# Altium footprint library Biotaitan.PcbLib: 15 footprints
Each footprint in its own frame and in the unit in brackets; x right, y up, seen from the top. Pads: shape width x height; smd on the part's side, far side on the other; paste and mask are expansions set on the pad; w line width, h text height; cw(c..) or ccw(c..) is an arc to the next point about the centre after c.
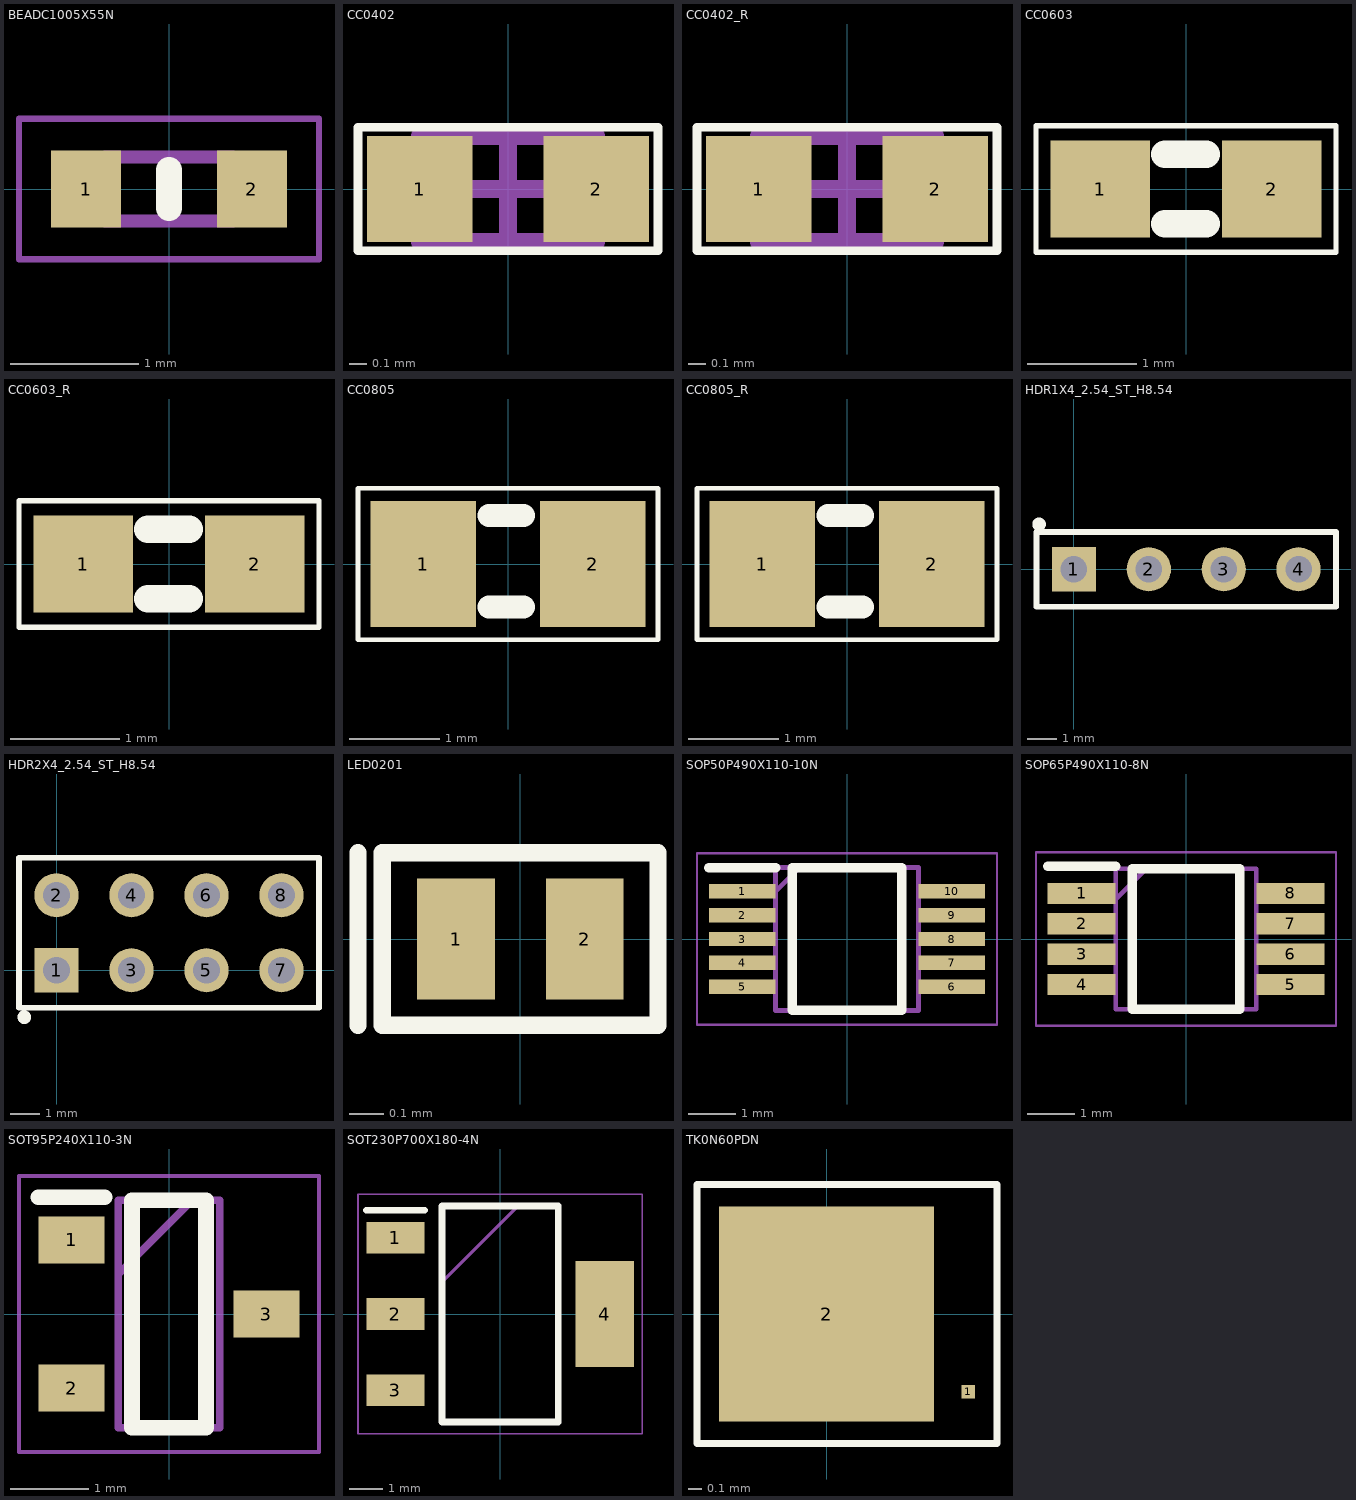
[diagram p0: the footprints below, top view; thin cyan lines are the x and y axes]

## BEADC1005X55N [mm]
pads (2):
  rect 0.55x0.6 smd: 1(-0.65,0) 2(0.65,0)
Top Overlay:
  lines w0.2: 0,-0.15 0,0.15
Mechanical 13:
  lines w0.1: -0.5,-0.25 -0.5,0.25 0.5,0.25 0.5,-0.25 -0.5,-0.25
Mechanical 15:
  lines w0.05: -1.175,-0.55 -1.175,0.55 1.175,0.55 1.175,-0.55 -1.175,-0.55
3D body "MMZ1005Y152CTD25.stp": height 0.55, standoff 0, extent -0.5,-0.25 0.5,0.25

## CC0402 [mm]
height 0.5
pads (2):
  rect 0.6x0.6 smd mask+0.07: 1(-0.5,0) 2(0.5,0)
Top Overlay:
  lines w0.05: -0.85,-0.35 -0.85,0.35 0.85,0.35 0.85,-0.35 -0.85,-0.35
Mechanical 13:
  lines w0.1: -0.5,-0.3 -0.5,0.3 0.5,0.3 0.5,-0.3 -0.5,-0.3
Mechanical 15:
  lines w0.1: -0.25,0 0.25,0 ; 0,-0.25 0,0.25
3D body "CC0402.step": height 0.5, standoff 0, extent -0.5,-0.25 0.5,0.25

## CC0402_R [mm]
height 0.5
pads (2):
  rect 0.6x0.6 smd mask+0.07: 1(-0.5,0) 2(0.5,0)
Top Overlay:
  lines w0.05: -0.85,-0.35 0.85,-0.35 0.85,0.35 -0.85,0.35 -0.85,-0.35
Mechanical 13:
  lines w0.1: -0.5,-0.3 0.5,-0.3 0.5,0.3 -0.5,0.3 -0.5,-0.3
Mechanical 15:
  lines w0.1: -0.25,0 0.25,0 ; 0,-0.25 0,0.25
3D body "CC402_R.step": height 0.35, standoff 0, extent -0.5,-0.25 0.5,0.25

## CC0603 [mil]
pads (2):
  rect 36x35 smd: 1(-31,0) 2(31,0)
Top Overlay:
  lines w1.97: -54.33,-22.83 54.33,-22.83 ; -54.33,-22.69 -54.33,22.72 ; -54.33,22.83 54.33,22.83 ; 54.33,-22.69 54.33,22.72
  lines w10: -7.62,-12.6 7.38,-12.6 ; -7.62,12.6 7.38,12.6
3D body "CC0603.step": height 31.5, standoff 0, extent -31.5,-15.75 31.49,15.74

## CC0603_R [mil]
pads (2):
  rect 36x35 smd: 1(-31,0) 2(31,0)
Top Overlay:
  lines w1.97: -54.33,-22.83 54.33,-22.83 ; -54.33,-22.69 -54.33,22.72 ; -54.33,22.83 54.33,22.83 ; 54.33,-22.69 54.33,22.72
  lines w10: -7.62,-12.6 7.38,-12.6 ; -7.62,12.6 7.38,12.6
3D body "CC0603_R.step": height 17.72, standoff 0, extent -31.5,-15.74 31.49,15.75

## CC0805 [mil]
pads (2):
  rect 46x55 smd: 1(-37,0) 2(37,0)
Top Overlay:
  lines w1.97: -65.35,-33.07 -65.35,33.07 65.35,33.07 65.35,-33.07 -65.35,-33.07
  lines w10: -8.28,-18.81 6.72,-18.81 ; -8.28,21.19 6.72,21.19
3D body "CC0805.step": height 39.37, standoff 0, extent -39.37,-24.6 39.37,24.61

## CC0805_R [mil]
pads (2):
  rect 46x55 smd: 1(-37,0) 2(37,0)
Top Overlay:
  lines w1.97: -65.35,-33.07 -65.35,33.07 65.35,33.07 65.35,-33.07 -65.35,-33.07
  lines w10: -8.28,-18.81 6.72,-18.81 ; -8.28,21.19 6.72,21.19
3D body "CC0805_R.step": height 29.92, standoff 0, extent -45.27,-26.57 45.28,26.58

## HDR1X4_2.54_ST_H8.54 [mm] "Connector; Header; 4 Position"
pads (4):
  rect 1.5x1.5 hole 0.9: 1(0,0)
  round 1.5 hole 0.9: 2(2.54,0) 3(5.08,0) 4(7.62,0)
Top Overlay:
  circle w0.254: c-1.185,1.525 r0.103
  lines w0.2: -1.27,-1.27 -1.27,1.27 8.89,1.27 8.89,-1.27 -1.27,-1.27
3D body "61300411121_Downlaod_STP_61300411121_rev1.stp": height 8.57, standoff -2.97, extent -1.21,-1.27 8.95,1.27

## HDR2X4_2.54_ST_H8.54 [mm] "Connector; Header; 8 Position"
pads (8):
  rect 1.5x1.5 hole 0.9: 1(0,0)
  round 1.5 hole 0.9: 2(0,2.54) 3(2.54,0) 4(2.54,2.54) 5(5.08,0) 6(5.08,2.54) 7(7.62,0) 8(7.62,2.54)
Top Overlay:
  circle w0.254: c-1.09,-1.59 r0.103
  lines w0.2: -1.27,-1.27 8.89,-1.27 8.89,1.27 8.89,3.81 -1.27,3.81 -1.27,1.27 -1.27,-1.27
3D body "61300411121_Downlaod_STP_61300411121_rev1.stp": height 8.57, standoff -2.97, extent -1.21,-1.27 8.95,1.27
3D body "61300411121_Downlaod_STP_61300411121_rev1.stp": height 8.57, standoff -2.97, extent -1.21,1.27 8.95,3.81

## LED0201 [mm]
pads (2):
  rect 0.225x0.35 smd: 1(-0.186,0) 2(0.188,0)
Top Overlay:
  lines w0.05: -0.47,-0.25 -0.47,0.25 ; -0.4,-0.25 -0.4,0.25 0.4,0.25 0.4,-0.25 -0.4,-0.25
3D body "IN-S21AT2G.stp": height 0.36, standoff 0, extent -0.325,-0.19 0.325,0.19

## SOP50P490X110-10N [mm]
pads (10):
  rect 1.4x0.3 smd: 1(-2.2,1) 2(-2.2,0.5) 3(-2.2,0) 4(-2.2,-0.5) 5(-2.2,-1) 6(2.2,-1) 7(2.2,-0.5) 8(2.2,0) 9(2.2,0.5) 10(2.2,1)
Top Overlay:
  lines w0.2: -2.9,1.5 -1.5,1.5 ; -1.15,-1.5 1.15,-1.5 1.15,1.5 -1.15,1.5 -1.15,-1.5
Mechanical 13:
  lines w0.1: -1.5,1 -1,1.5 ; -1.5,-1.5 1.5,-1.5 1.5,1.5 -1.5,1.5 -1.5,-1.5
Mechanical 15:
  lines w0.05: -3.15,-1.8 3.15,-1.8 3.15,1.8 -3.15,1.8 -3.15,-1.8
3D body "ADS1115IDGSR.stp": height 1.1, standoff 0, extent -2.463,-1.5 2.463,1.5

## SOP65P490X110-8N [mm]
pads (8):
  rect 1.45x0.45 smd: 1(-2.225,0.975) 2(-2.225,0.325) 3(-2.225,-0.325) 4(-2.225,-0.975) 5(2.225,-0.975) 6(2.225,-0.325) 7(2.225,0.325) 8(2.225,0.975)
Top Overlay:
  lines w0.2: -2.95,1.55 -1.5,1.55 ; -1.15,-1.5 -1.15,1.5 1.15,1.5 1.15,-1.5 -1.15,-1.5
Mechanical 13:
  lines w0.1: -1.5,0.85 -0.85,1.5 ; -1.5,-1.5 -1.5,1.5 1.5,1.5 1.5,-1.5 -1.5,-1.5
Mechanical 15:
  lines w0.05: -3.2,-1.85 -3.2,1.85 3.2,1.85 3.2,-1.85 -3.2,-1.85
3D body "AD8642ARMZ.stp": height 1.1, standoff 0, extent -2.45,-1.5 2.45,1.5

## SOT95P240X110-3N [mm]
pads (3):
  rect 0.85x0.6 smd: 1(-1.25,0.95) 2(-1.25,-0.95) 3(1.25,0)
Top Overlay:
  lines w0.2: -1.675,1.5 -0.825,1.5 ; -0.475,-1.46 -0.475,1.46 0.475,1.46 0.475,-1.46 -0.475,-1.46
Mechanical 13:
  lines w0.1: -0.65,0.51 0.3,1.46 ; -0.65,-1.46 -0.65,1.46 0.65,1.46 0.65,-1.46 -0.65,-1.46
Mechanical 15:
  lines w0.05: -1.925,-1.77 -1.925,1.77 1.925,1.77 1.925,-1.77 -1.925,-1.77
3D body "PJA3400_R1_00001.stp": height 1.1, standoff 0, extent -1.2,-1.46 1.2,1.46

## SOT230P700X180-4N [mm]
pads (4):
  rect 1.75x0.95 smd: 1(-3.15,2.3) 2(-3.15,0) 3(-3.15,-2.3)
  rect 1.75x3.2 smd: 4(3.15,0)
Top Overlay:
  lines w0.2: -4.025,3.125 -2.275,3.125 ; -1.75,-3.25 -1.75,3.25 1.75,3.25 1.75,-3.25 -1.75,-3.25
Mechanical 13:
  lines w0.1: -1.75,0.95 0.55,3.25 ; -1.75,-3.25 -1.75,3.25 1.75,3.25 1.75,-3.25 -1.75,-3.25
Mechanical 15:
  lines w0.05: -4.275,-3.6 -4.275,3.6 4.275,3.6 4.275,-3.6 -4.275,-3.6
3D body "LM317DCY.stp": height 1.68, standoff 0, extent -3.5,-3.25 3.5,3.25

## TK0N60PDN [mil]
pads (2):
  rect 3.94x3.94 smd paste-99999: 1(40.87,-22.5)
  rect 62x62 smd: 2(0,0)
Top Overlay:
  lines w1.97: -37.4,-37.4 -37.4,37.4 49.21,37.4 49.21,-37.4 -37.4,-37.4
3D body: height 12, standoff 0, extent -29.98,-30 29.98,30